# Altium footprint library Texas Instruments Footprints.PcbLib: 429 footprints (part 31 of 32)
Each footprint in its own frame and in the unit in brackets; x right, y up, seen from the top. Pads: shape width x height; smd on the part's side, far side on the other; paste and mask are expansions set on the pad; w line width, h text height; cw(c..) or ccw(c..) is an arc to the next point about the centre after c.
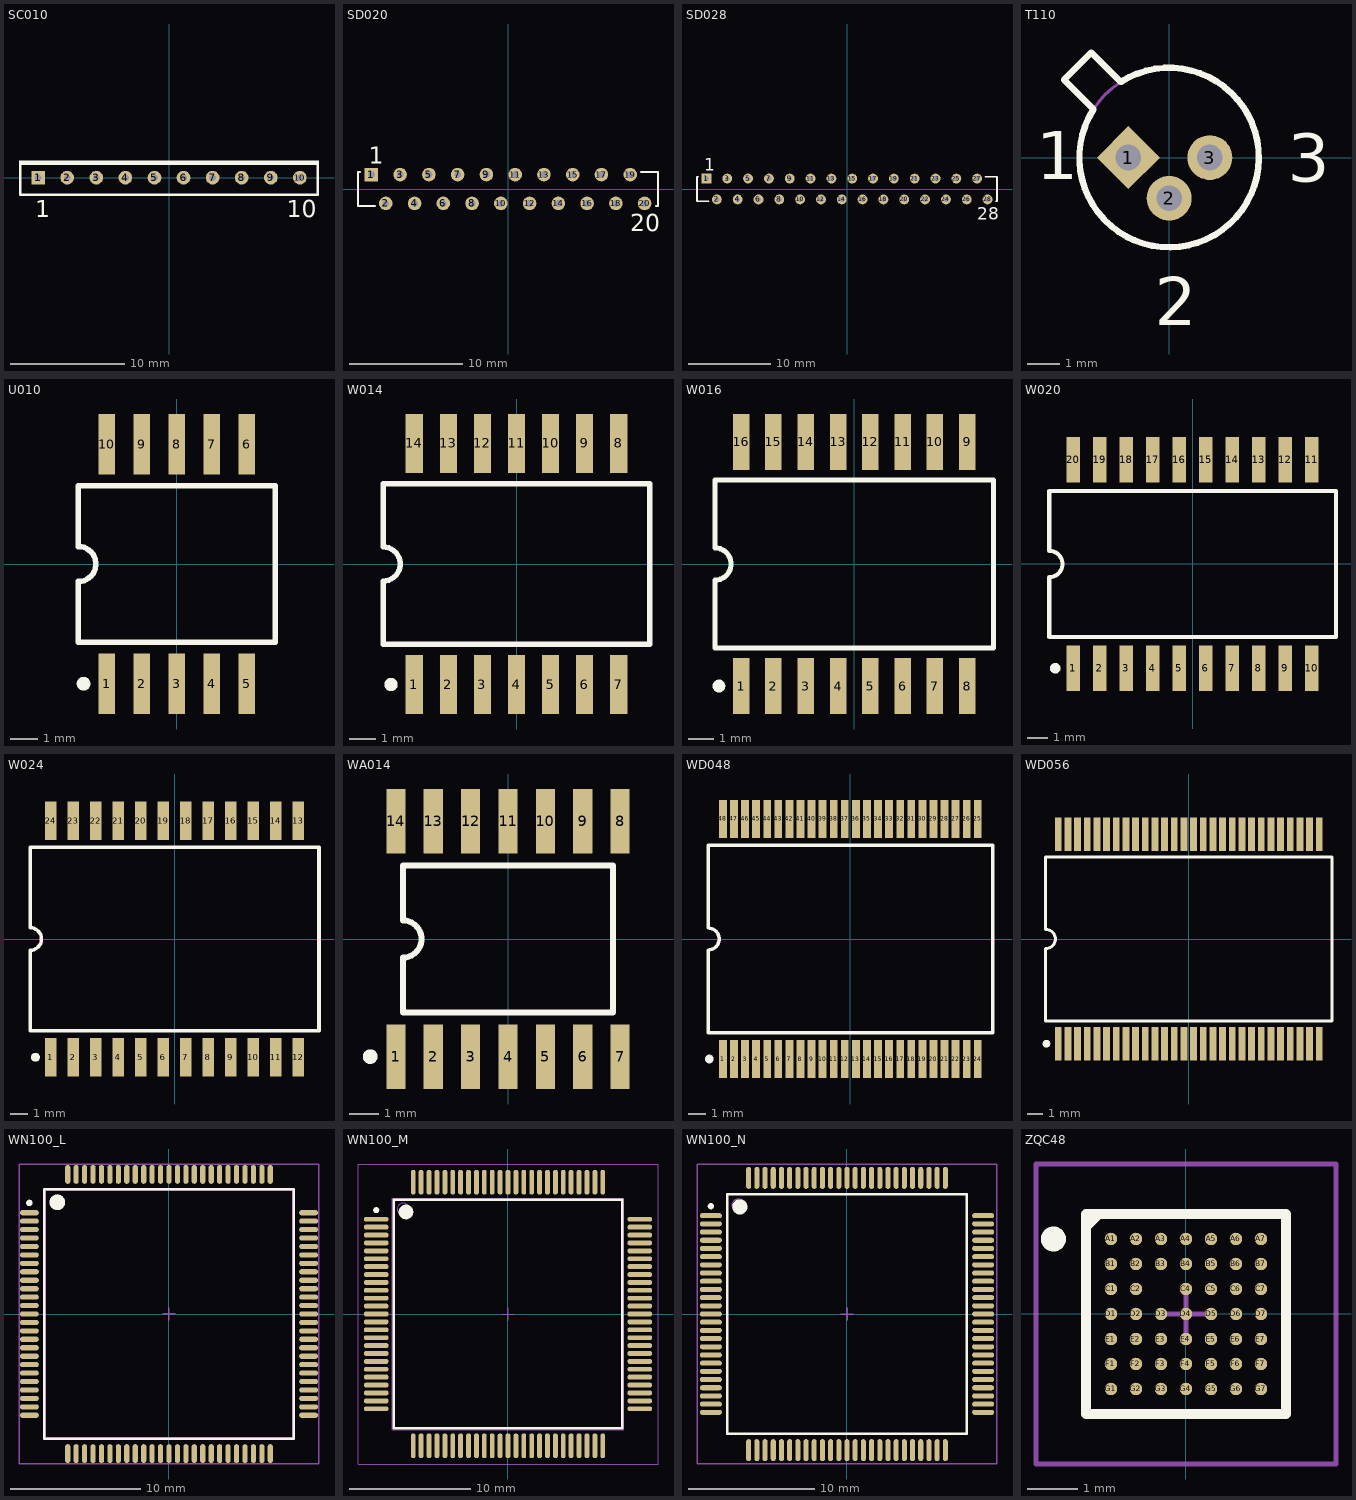
[diagram p30: the footprints below, top view; thin cyan lines are the x and y axes]

## SC010 [mm] "SIP; 10 Leads; Body 25.3 x 2.8 mm (LxW typ); Pitch 2.54 mm"
height 7.5
pads (10):
  rect 1.2x1.2 hole 0.6: 1(-11.43,0)
  round 1.2 hole 0.6: 2(-8.89,0) 3(-6.35,0) 4(-3.81,0) 5(-1.27,0) 6(1.27,0) 7(3.81,0) 8(6.35,0) 9(8.89,0) 10(11.43,0)
Top Overlay:
  rectangle: -13.1,1.1 13.1,1.5
  lines w0.2: -13,1.4 -13,-1.5 13,-1.5 13,1.4
  text "1" at -11.68,-3.475 h1.5
  text "10" at 10.305,-3.475 h1.5

## SD020 [mm] "ZIP; 20 Leads; Row Space 2.54 mm; Pitch 1.27 mm"
height 10.2
pads (20):
  rect 1.2x1.2 hole 0.6: 1(-12.065,1.27)
  round 1.2 hole 0.6: 2(-10.795,-1.27) 3(-9.525,1.27) 4(-8.255,-1.27) 5(-6.985,1.27) 6(-5.715,-1.27) 7(-4.445,1.27) 8(-3.175,-1.27) 9(-1.905,1.27) 10(-0.635,-1.27) 11(0.635,1.27) 12(1.905,-1.27) 13(3.175,1.27) 14(4.445,-1.27) 15(5.715,1.27) 16(6.985,-1.27) 17(8.255,1.27) 18(9.525,-1.27) 19(10.795,1.27) 20(12.065,-1.27)
Top Overlay:
  lines w0.2: -13.08,1.5 -13.25,1.5 -13.25,-1.5 -11.78,-1.5 ; 11.78,1.5 13.25,1.5 13.25,-1.5 13.08,-1.5
  text "20" at 10.777,-3.745 h1.5
  text "1" at -12.315,2.245 h1.5

## SD028 [mm] "ZIP; 28 Leads; Row Space 2.54 mm; Pitch 1.27 mm"
height 10.2
pads (28):
  rect 1.2x1.2 hole 0.6: 1(-17.145,1.27)
  round 1.2 hole 0.6: 2(-15.875,-1.27) 3(-14.605,1.27) 4(-13.335,-1.27) 5(-12.065,1.27) 6(-10.795,-1.27) 7(-9.525,1.27) 8(-8.255,-1.27) 9(-6.985,1.27) 10(-5.715,-1.27) 11(-4.445,1.27) 12(-3.175,-1.27) 13(-1.905,1.27) 14(-0.635,-1.27) 15(0.635,1.27) 16(1.905,-1.27) 17(3.175,1.27) 18(4.445,-1.27) 19(5.715,1.27) 20(6.985,-1.27) 21(8.255,1.27) 22(9.525,-1.27) 23(10.795,1.27) 24(12.065,-1.27) 25(13.335,1.27) 26(14.605,-1.27) 27(15.875,1.27) 28(17.145,-1.27)
Top Overlay:
  lines w0.2: -18.16,1.5 -18.295,1.5 -18.295,-1.5 -16.86,-1.5 ; 16.86,1.5 18.295,1.5 18.295,-1.5 18.16,-1.5
  text "28" at 15.857,-3.745 h1.5
  text "1" at -17.395,2.245 h1.5

## T110 [mm] "Can; 3 Leads; Pin Circle Dia. 2.54 mm; Lead Dia. 0.48 mm (max)"
height 2.67
pads (3):
  rect 1.4x1.4 hole 0.8 rot 45: 1(-1.27,0)
  round 1.4 hole 0.8: 2(0,-1.27) 3(1.27,0)
Top Overlay:
  lines w0.2: -3.277,2.429 -2.358,1.51 ccw(c0,0) -1.51,2.358 -2.429,3.277 -3.277,2.429
  text "3" at 3.706,-0.751 h1.5
  text "2" at -0.442,-5.239 h1.5
  text "1" at -4.153,-0.68 h1.5
Mechanical 1:
  circle w0.1: c0,0 r2.8

## U010 [mm] "DFP; 10 Leads; Body 7.1 x 6.4 mm (LxW max); Pitch 1.27 mm"
height 2.03
pads (10):
  rect 0.6x2.2 smd: 1(-2.54,-4.35) 2(-1.27,-4.35) 3(0,-4.35) 4(1.27,-4.35) 5(2.54,-4.35) 6(2.54,4.35) 7(1.27,4.35) 8(0,4.35) 9(-1.27,4.35) 10(-2.54,4.35)
Top Overlay:
  circle w0.25: c-3.39,-4.35 r0.125
  lines w0.2: -3.575,-2.85 -3.575,-0.635 ccw(c-3.575,0) -3.575,0.635 -3.575,2.85 3.575,2.85 3.575,-2.85 -3.575,-2.85

## W014 [mm] "DFP; 14 Leads; Body 9.9 x 6.6 mm (LxW max); Pitch 1.27 mm"
height 2.03
pads (14):
  rect 0.65x2.2 smd: 1(-3.81,-4.5) 2(-2.54,-4.5) 3(-1.27,-4.5) 4(0,-4.5) 5(1.27,-4.5) 6(2.54,-4.5) 7(3.81,-4.5) 8(3.81,4.5) 9(2.54,4.5) 10(1.27,4.5) 11(0,4.5) 12(-1.27,4.5) 13(-2.54,4.5) 14(-3.81,4.5)
Top Overlay:
  circle w0.25: c-4.685,-4.5 r0.125
  lines w0.2: -4.975,-3 -4.975,-0.635 ccw(c-4.975,0) -4.975,0.635 -4.975,3 4.975,3 4.975,-3 -4.975,-3

## W016 [mm] "DFP; 16 Leads; Body 10.9 x 7.2 mm (LxW max); Pitch 1.27 mm"
height 2.03
pads (16):
  rect 0.65x2.2 smd: 1(-4.445,-4.8) 2(-3.175,-4.8) 3(-1.905,-4.8) 4(-0.635,-4.8) 5(0.635,-4.8) 6(1.905,-4.8) 7(3.175,-4.8) 8(4.445,-4.8) 9(4.445,4.8) 10(3.175,4.8) 11(1.905,4.8) 12(0.635,4.8) 13(-0.635,4.8) 14(-1.905,4.8) 15(-3.175,4.8) 16(-4.445,4.8)
Top Overlay:
  circle w0.25: c-5.32,-4.8 r0.125
  lines w0.2: -5.475,-3.3 5.475,-3.3 5.475,3.3 -5.475,3.3 -5.475,0.635 cw(c-5.475,0) -5.475,-0.635 -5.475,-3.3

## W020 [mm] "DFP; 20 Leads; Body 13.7 x 7.6 mm (LxW max); Pitch 1.27 mm"
height 2.54
pads (20):
  rect 0.65x2.2 smd: 1(-5.715,-5) 2(-4.445,-5) 3(-3.175,-5) 4(-1.905,-5) 5(-0.635,-5) 6(0.635,-5) 7(1.905,-5) 8(3.175,-5) 9(4.445,-5) 10(5.715,-5) 11(5.715,5) 12(4.445,5) 13(3.175,5) 14(1.905,5) 15(0.635,5) 16(-0.635,5) 17(-1.905,5) 18(-3.175,5) 19(-4.445,5) 20(-5.715,5)
Top Overlay:
  circle w0.25: c-6.59,-5 r0.125
  lines w0.2: -6.875,-3.5 6.875,-3.5 6.875,3.5 -6.875,3.5 -6.875,0.635 cw(c-6.875,0) -6.875,-0.635 -6.875,-3.5

## W024 [mm] "DFP; 24 Leads; Body 16.3 x 9.5 mm (LxW max); Pitch 1.27 mm"
height 2.29
pads (24):
  rect 0.65x2.2 smd: 1(-6.985,-6.675) 2(-5.715,-6.675) 3(-4.445,-6.675) 4(-3.175,-6.675) 5(-1.905,-6.675) 6(-0.635,-6.675) 7(0.635,-6.675) 8(1.905,-6.675) 9(3.175,-6.675) 10(4.445,-6.675) 11(5.715,-6.675) 12(6.985,-6.675) 13(6.985,6.675) 14(5.715,6.675) 15(4.445,6.675) 16(3.175,6.675) 17(1.905,6.675) 18(0.635,6.675) 19(-0.635,6.675) 20(-1.905,6.675) 21(-3.175,6.675) 22(-4.445,6.675) 23(-5.715,6.675) 24(-6.985,6.675)
Top Overlay:
  circle w0.25: c-7.86,-6.675 r0.125
  lines w0.2: -8.15,-5.175 8.15,-5.175 8.15,5.175 -8.15,5.175 -8.15,0.635 cw(c-8.15,0) -8.15,-0.635 -8.15,-5.175

## WA014 [mm] "DFP; 14 Leads; Body 7.1 x 5.1 mm (LxW max); Pitch 1.27 mm"
height 1.78
pads (14):
  rect 0.65x2.2 smd: 1(-3.81,-4) 2(-2.54,-4) 3(-1.27,-4) 4(0,-4) 5(1.27,-4) 6(2.54,-4) 7(3.81,-4) 8(3.81,4) 9(2.54,4) 10(1.27,4) 11(0,4) 12(-1.27,4) 13(-2.54,4) 14(-3.81,4)
Top Overlay:
  circle w0.25: c-4.685,-4 r0.125
  lines w0.2: -3.575,-2.5 3.575,-2.5 3.575,2.5 -3.575,2.5 -3.575,0.635 cw(c-3.575,0) -3.575,-0.635 -3.575,-2.5

## WD048 [mm] "DFP; 48 Leads; Body 16.3 x 9.9 mm (LxW max); Pitch 0.635 mm"
height 3.05
pads (48):
  rect 0.45x2.2 smd: 1(-7.302,-6.875) 2(-6.667,-6.875) 3(-6.032,-6.875) 4(-5.397,-6.875) 5(-4.763,-6.875) 6(-4.127,-6.875) 7(-3.492,-6.875) 8(-2.857,-6.875) 9(-2.222,-6.875) 10(-1.587,-6.875) 11(-0.953,-6.875) 12(-0.318,-6.875) 13(0.318,-6.875) 14(0.953,-6.875) 15(1.587,-6.875) 16(2.222,-6.875) 17(2.857,-6.875) 18(3.492,-6.875) 19(4.127,-6.875) 20(4.763,-6.875) 21(5.397,-6.875) 22(6.032,-6.875) 23(6.667,-6.875) 24(7.302,-6.875) 25(7.302,6.875) 26(6.667,6.875) 27(6.032,6.875) 28(5.397,6.875) 29(4.763,6.875) 30(4.127,6.875) 31(3.492,6.875) 32(2.857,6.875) 33(2.222,6.875) 34(1.587,6.875) 35(0.953,6.875) 36(0.318,6.875) 37(-0.318,6.875) 38(-0.953,6.875) 39(-1.587,6.875) 40(-2.222,6.875) 41(-2.857,6.875) 42(-3.492,6.875) 43(-4.127,6.875) 44(-4.763,6.875) 45(-5.397,6.875) 46(-6.032,6.875) 47(-6.667,6.875) 48(-7.302,6.875)
Top Overlay:
  circle w0.25: c-8.077,-6.875 r0.125
  lines w0.2: -8.15,-5.375 8.15,-5.375 8.15,5.375 -8.15,5.375 -8.15,0.635 cw(c-8.15,0) -8.15,-0.635 -8.15,-5.375

## WD056 [mm] "DFP; 56 Leads; Body 18.8 x 9.9 mm (LxW max); Pitch 0.635 mm"
height 3.05
pads (56):
  rect 0.45x2.2 smd: 1(-8.572,-6.875) 2(-7.938,-6.875) 3(-7.302,-6.875) 4(-6.667,-6.875) 5(-6.032,-6.875) 6(-5.397,-6.875) 7(-4.763,-6.875) 8(-4.127,-6.875) 9(-3.492,-6.875) 10(-2.857,-6.875) 11(-2.222,-6.875) 12(-1.587,-6.875) 13(-0.953,-6.875) 14(-0.318,-6.875) 15(0.318,-6.875) 16(0.953,-6.875) 17(1.587,-6.875) 18(2.222,-6.875) 19(2.857,-6.875) 20(3.492,-6.875) 21(4.127,-6.875) 22(4.763,-6.875) 23(5.397,-6.875) 24(6.032,-6.875) 25(6.667,-6.875) 26(7.302,-6.875) 27(7.938,-6.875) 28(8.572,-6.875) 29(8.572,6.875) 30(7.938,6.875) 31(7.302,6.875) 32(6.667,6.875) 33(6.032,6.875) 34(5.397,6.875) 35(4.763,6.875) 36(4.127,6.875) 37(3.492,6.875) 38(2.857,6.875) 39(2.222,6.875) 40(1.587,6.875) 41(0.953,6.875) 42(0.318,6.875) 43(-0.318,6.875) 44(-0.953,6.875) 45(-1.587,6.875) 46(-2.222,6.875) 47(-2.857,6.875) 48(-3.492,6.875) 49(-4.127,6.875) 50(-4.763,6.875) 51(-5.397,6.875) 52(-6.032,6.875) 53(-6.667,6.875) 54(-7.302,6.875) 55(-7.938,6.875) 56(-8.572,6.875)
Top Overlay:
  circle w0.25: c-9.347,-6.875 r0.125
  lines w0.2: -9.4,-5.375 -9.4,-0.635 ccw(c-9.4,0) -9.4,0.635 -9.4,5.375 9.4,5.375 9.4,-5.375 -9.4,-5.375

## WN100_L [mm] "100-Pin Quad Flat Pack 0.65 mm Pitch, IPC High Density"
height 4.07
pads (100):
  oval 1.45x0.4 smd: 1(-10.75,7.8) 2(-10.75,7.15) 3(-10.75,6.5) 4(-10.75,5.85) 5(-10.75,5.2) 6(-10.75,4.55) 7(-10.75,3.9) 8(-10.75,3.25) 9(-10.75,2.6) 10(-10.75,1.95) 11(-10.75,1.3) 12(-10.75,0.65) 13(-10.75,0) 14(-10.75,-0.65) 15(-10.75,-1.3) 16(-10.75,-1.95) 17(-10.75,-2.6) 18(-10.75,-3.25) 19(-10.75,-3.9) 20(-10.75,-4.55) 21(-10.75,-5.2) 22(-10.75,-5.85) 23(-10.75,-6.5) 24(-10.75,-7.15) 25(-10.75,-7.8) 51(10.75,-7.8) 52(10.75,-7.15) 53(10.75,-6.5) 54(10.75,-5.85) 55(10.75,-5.2) 56(10.75,-4.55) 57(10.75,-3.9) 58(10.75,-3.25) 59(10.75,-2.6) 60(10.75,-1.95) 61(10.75,-1.3) 62(10.75,-0.65) 63(10.75,0) 64(10.75,0.65) 65(10.75,1.3) 66(10.75,1.95) 67(10.75,2.6) 68(10.75,3.25) 69(10.75,3.9) 70(10.75,4.55) 71(10.75,5.2) 72(10.75,5.85) 73(10.75,6.5) 74(10.75,7.15) 75(10.75,7.8)
  oval 0.4x1.45 smd: 26(-7.8,-10.75) 27(-7.15,-10.75) 28(-6.5,-10.75) 29(-5.85,-10.75) 30(-5.2,-10.75) 31(-4.55,-10.75) 32(-3.9,-10.75) 33(-3.25,-10.75) 34(-2.6,-10.75) 35(-1.95,-10.75) 36(-1.3,-10.75) 37(-0.65,-10.75) 38(0,-10.75) 39(0.65,-10.75) 40(1.3,-10.75) 41(1.95,-10.75) 42(2.6,-10.75) 43(3.25,-10.75) 44(3.9,-10.75) 45(4.55,-10.75) 46(5.2,-10.75) 47(5.85,-10.75) 48(6.5,-10.75) 49(7.15,-10.75) 50(7.8,-10.75) 76(7.8,10.75) 77(7.15,10.75) 78(6.5,10.75) 79(5.85,10.75) 80(5.2,10.75) 81(4.55,10.75) 82(3.9,10.75) 83(3.25,10.75) 84(2.6,10.75) 85(1.95,10.75) 86(1.3,10.75) 87(0.65,10.75) 88(0,10.75) 89(-0.65,10.75) 90(-1.3,10.75) 91(-1.95,10.75) 92(-2.6,10.75) 93(-3.25,10.75) 94(-3.9,10.75) 95(-4.55,10.75) 96(-5.2,10.75) 97(-5.85,10.75) 98(-6.5,10.75) 99(-7.15,10.75) 100(-7.8,10.75)
Top Overlay:
  circle w0.6: c-8.6,8.6 r0.3
  circle w0.25: c-10.75,8.55 r0.125
  lines w0.2: -9.6,-9.6 9.6,-9.6 9.6,9.6 -9.6,9.6 -9.6,-9.6
Mechanical 13:
  circle w0.1: c-8.625,8.625 r0.5
  lines w0.1: -9.525,-9.525 9.525,-9.525 9.525,9.525 -9.525,9.525 -9.525,-9.525
Mechanical 15:
  lines w0.1: -0.5,0 0.5,0 ; 0,-0.5 0,0.5 ; -11.55,-11.55 11.55,-11.55 11.55,11.55 -11.55,11.55 -11.55,-11.55
3D body: height 4.07, standoff 0, extent -9.525,-9.525 9.525,9.525

## WN100_M [mm] "100-Pin Quad Flat Pack 0.65 mm Pitch, IPC Low Density"
height 4.07
pads (100):
  oval 2.05x0.4 smd: 1(-10.85,7.8) 2(-10.85,7.15) 3(-10.85,6.5) 4(-10.85,5.85) 5(-10.85,5.2) 6(-10.85,4.55) 7(-10.85,3.9) 8(-10.85,3.25) 9(-10.85,2.6) 10(-10.85,1.95) 11(-10.85,1.3) 12(-10.85,0.65) 13(-10.85,0) 14(-10.85,-0.65) 15(-10.85,-1.3) 16(-10.85,-1.95) 17(-10.85,-2.6) 18(-10.85,-3.25) 19(-10.85,-3.9) 20(-10.85,-4.55) 21(-10.85,-5.2) 22(-10.85,-5.85) 23(-10.85,-6.5) 24(-10.85,-7.15) 25(-10.85,-7.8) 51(10.85,-7.8) 52(10.85,-7.15) 53(10.85,-6.5) 54(10.85,-5.85) 55(10.85,-5.2) 56(10.85,-4.55) 57(10.85,-3.9) 58(10.85,-3.25) 59(10.85,-2.6) 60(10.85,-1.95) 61(10.85,-1.3) 62(10.85,-0.65) 63(10.85,0) 64(10.85,0.65) 65(10.85,1.3) 66(10.85,1.95) 67(10.85,2.6) 68(10.85,3.25) 69(10.85,3.9) 70(10.85,4.55) 71(10.85,5.2) 72(10.85,5.85) 73(10.85,6.5) 74(10.85,7.15) 75(10.85,7.8)
  oval 0.4x2.05 smd: 26(-7.8,-10.85) 27(-7.15,-10.85) 28(-6.5,-10.85) 29(-5.85,-10.85) 30(-5.2,-10.85) 31(-4.55,-10.85) 32(-3.9,-10.85) 33(-3.25,-10.85) 34(-2.6,-10.85) 35(-1.95,-10.85) 36(-1.3,-10.85) 37(-0.65,-10.85) 38(0,-10.85) 39(0.65,-10.85) 40(1.3,-10.85) 41(1.95,-10.85) 42(2.6,-10.85) 43(3.25,-10.85) 44(3.9,-10.85) 45(4.55,-10.85) 46(5.2,-10.85) 47(5.85,-10.85) 48(6.5,-10.85) 49(7.15,-10.85) 50(7.8,-10.85) 76(7.8,10.85) 77(7.15,10.85) 78(6.5,10.85) 79(5.85,10.85) 80(5.2,10.85) 81(4.55,10.85) 82(3.9,10.85) 83(3.25,10.85) 84(2.6,10.85) 85(1.95,10.85) 86(1.3,10.85) 87(0.65,10.85) 88(0,10.85) 89(-0.65,10.85) 90(-1.3,10.85) 91(-1.95,10.85) 92(-2.6,10.85) 93(-3.25,10.85) 94(-3.9,10.85) 95(-4.55,10.85) 96(-5.2,10.85) 97(-5.85,10.85) 98(-6.5,10.85) 99(-7.15,10.85) 100(-7.8,10.85)
Top Overlay:
  circle w0.6: c-8.4,8.4 r0.3
  circle w0.25: c-10.85,8.55 r0.125
  lines w0.2: -9.4,-9.4 9.4,-9.4 9.4,9.4 -9.4,9.4 -9.4,-9.4
Mechanical 13:
  circle w0.1: c-8.625,8.625 r0.5
  lines w0.1: -9.525,-9.525 9.525,-9.525 9.525,9.525 -9.525,9.525 -9.525,-9.525
Mechanical 15:
  lines w0.1: -0.5,0 0.5,0 ; 0,-0.5 0,0.5 ; -12.35,-12.35 12.35,-12.35 12.35,12.35 -12.35,12.35 -12.35,-12.35
3D body: height 4.07, standoff 0, extent -9.525,-9.525 9.525,9.525

## WN100_N [mm] "100-Pin Quad Flat Pack 0.65 mm Pitch, IPC Medium Density"
height 4.07
pads (100):
  oval 1.75x0.4 smd: 1(-10.8,7.8) 2(-10.8,7.15) 3(-10.8,6.5) 4(-10.8,5.85) 5(-10.8,5.2) 6(-10.8,4.55) 7(-10.8,3.9) 8(-10.8,3.25) 9(-10.8,2.6) 10(-10.8,1.95) 11(-10.8,1.3) 12(-10.8,0.65) 13(-10.8,0) 14(-10.8,-0.65) 15(-10.8,-1.3) 16(-10.8,-1.95) 17(-10.8,-2.6) 18(-10.8,-3.25) 19(-10.8,-3.9) 20(-10.8,-4.55) 21(-10.8,-5.2) 22(-10.8,-5.85) 23(-10.8,-6.5) 24(-10.8,-7.15) 25(-10.8,-7.8) 51(10.8,-7.8) 52(10.8,-7.15) 53(10.8,-6.5) 54(10.8,-5.85) 55(10.8,-5.2) 56(10.8,-4.55) 57(10.8,-3.9) 58(10.8,-3.25) 59(10.8,-2.6) 60(10.8,-1.95) 61(10.8,-1.3) 62(10.8,-0.65) 63(10.8,0) 64(10.8,0.65) 65(10.8,1.3) 66(10.8,1.95) 67(10.8,2.6) 68(10.8,3.25) 69(10.8,3.9) 70(10.8,4.55) 71(10.8,5.2) 72(10.8,5.85) 73(10.8,6.5) 74(10.8,7.15) 75(10.8,7.8)
  oval 0.4x1.75 smd: 26(-7.8,-10.8) 27(-7.15,-10.8) 28(-6.5,-10.8) 29(-5.85,-10.8) 30(-5.2,-10.8) 31(-4.55,-10.8) 32(-3.9,-10.8) 33(-3.25,-10.8) 34(-2.6,-10.8) 35(-1.95,-10.8) 36(-1.3,-10.8) 37(-0.65,-10.8) 38(0,-10.8) 39(0.65,-10.8) 40(1.3,-10.8) 41(1.95,-10.8) 42(2.6,-10.8) 43(3.25,-10.8) 44(3.9,-10.8) 45(4.55,-10.8) 46(5.2,-10.8) 47(5.85,-10.8) 48(6.5,-10.8) 49(7.15,-10.8) 50(7.8,-10.8) 76(7.8,10.8) 77(7.15,10.8) 78(6.5,10.8) 79(5.85,10.8) 80(5.2,10.8) 81(4.55,10.8) 82(3.9,10.8) 83(3.25,10.8) 84(2.6,10.8) 85(1.95,10.8) 86(1.3,10.8) 87(0.65,10.8) 88(0,10.8) 89(-0.65,10.8) 90(-1.3,10.8) 91(-1.95,10.8) 92(-2.6,10.8) 93(-3.25,10.8) 94(-3.9,10.8) 95(-4.55,10.8) 96(-5.2,10.8) 97(-5.85,10.8) 98(-6.5,10.8) 99(-7.15,10.8) 100(-7.8,10.8)
Top Overlay:
  circle w0.6: c-8.5,8.5 r0.3
  circle w0.25: c-10.8,8.55 r0.125
  lines w0.2: -9.5,-9.5 9.5,-9.5 9.5,9.5 -9.5,9.5 -9.5,-9.5
Mechanical 13:
  circle w0.1: c-8.625,8.625 r0.5
  lines w0.1: -9.525,-9.525 9.525,-9.525 9.525,9.525 -9.525,9.525 -9.525,-9.525
Mechanical 15:
  lines w0.1: -0.5,0 0.5,0 ; 0,-0.5 0,0.5 ; -11.9,-11.9 11.9,-11.9 11.9,11.9 -11.9,11.9 -11.9,-11.9
3D body: height 4.07, standoff 0, extent -9.525,-9.525 9.525,9.525

## ZQC48 [mm] "48-Ball Plastic Ball Grid Array 0.5 mm Pitch"
height 1
pads (48):
  round 0.25 smd: A1(-1.5,1.5) A2(-1,1.5) A3(-0.5,1.5) A4(0,1.5) A5(0.5,1.5) A6(1,1.5) A7(1.5,1.5) B1(-1.5,1) B2(-1,1) B3(-0.5,1) B4(0,1) B5(0.5,1) B6(1,1) B7(1.5,1) C1(-1.5,0.5) C2(-1,0.5) C4(0,0.5) C5(0.5,0.5) C6(1,0.5) C7(1.5,0.5) D1(-1.5,0) D2(-1,0) D3(-0.5,0) D4(0,0) D5(0.5,0) D6(1,0) D7(1.5,0) E1(-1.5,-0.5) E2(-1,-0.5) E3(-0.5,-0.5) E4(0,-0.5) E5(0.5,-0.5) E6(1,-0.5) E7(1.5,-0.5) F1(-1.5,-1) F2(-1,-1) F3(-0.5,-1) F4(0,-1) F5(0.5,-1) F6(1,-1) F7(1.5,-1) G1(-1.5,-1.5) G2(-1,-1.5) G3(-0.5,-1.5) G4(0,-1.5) G5(0.5,-1.5) G6(1,-1.5) G7(1.5,-1.5)
Top Overlay:
  circle w0.25: c-2.65,1.5 r0.125
  region: -1.742,2 -2,1.742 -2,2
  lines w0.2: -2,1.742 -1.742,2 ; -2,-2 2,-2 2,2 -2,2 -2,-2
Mechanical 13:
  lines w0.1: -2,-2 2,-2 2,2 -2,2 -2,-2
Mechanical 15:
  lines w0.1: -0.5,0 0.5,0 ; 0,-0.5 0,0.5 ; -3,-3 3,-3 3,3 -3,3 -3,-3
3D body: height 1, standoff 0, extent -2,-2 2,2